# EAGLE library part 8IN24V (library e-freebus)
8IN Freebus
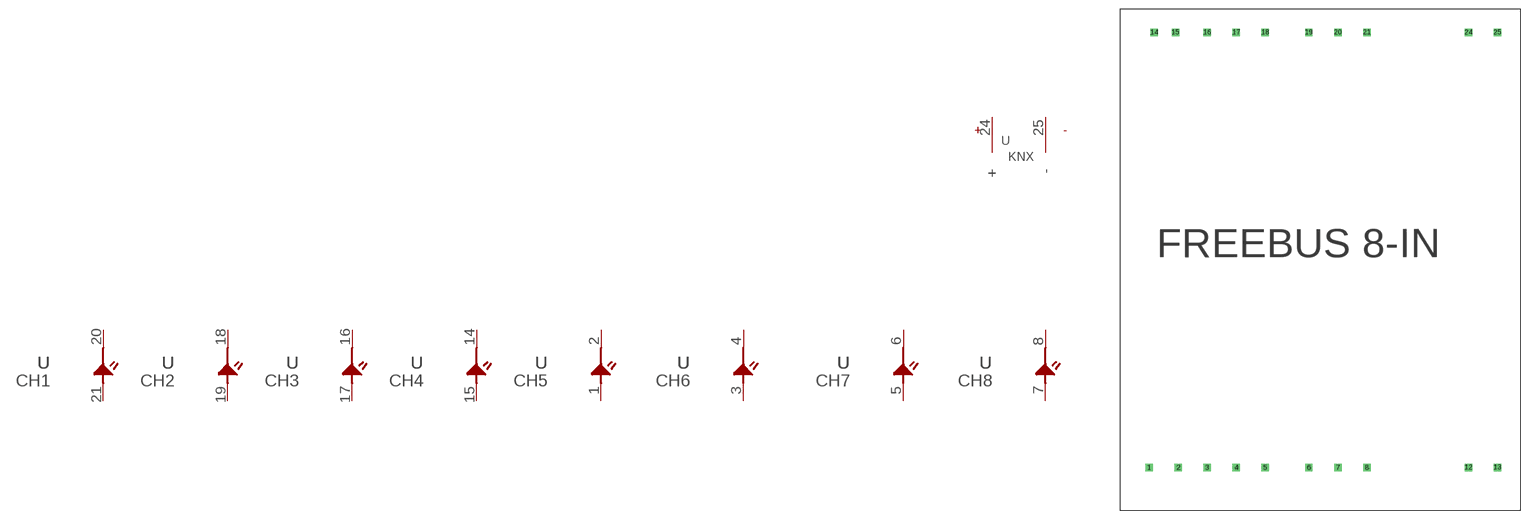
[diagram p2: symbol with the pads of 8IN; footprint 8IN]

Designator prefix -; gates CH1=OPTOIN CH2=OPTOIN CH3=OPTOIN CH4=OPTOIN CH5=OPTOIN CH6=OPTOIN CH7=OPTOIN CH8=OPTOIN KNX=BUS

## 8IN24V8IN  [8IN]
1  CH5:+/L  pas
2  CH5:-/N  pas
3  CH6:+/L  pas
4  CH6:-/N  pas
5  CH7:+/L  pas
6  CH7:-/N  pas
7  CH8:+/L  pas
8  CH8:-/N  pas
14  CH4:-/N  pas
15  CH4:+/L  pas
16  CH3:-/N  pas
17  CH3:+/L  pas
18  CH2:-/N  pas
19  CH2:+/L  pas
20  CH1:-/N  pas
21  CH1:+/L  pas
24  KNX:+  in
25  KNX:-  in

## Footprint 8IN (pad centres in mm)
drill 0.8 square: 1 5.08,7.62; 2 10.16,7.62; 3 15.24,7.62; 4 20.32,7.62; 5 25.4,7.62; 6 33.02,7.62; 7 38.1,7.62; 8 43.18,7.62; 12 60.96,7.62; 13 66.04,7.62; 14 5.95,83.81; 15 9.66,83.82; 16 15.24,83.82; 17 20.32,83.82; 18 25.4,83.82; 19 33.02,83.82; 20 38.1,83.82; 21 43.18,83.82; 24 60.96,83.82; 25 66.04,83.82